# Altium footprint library SD2114S040S8R0.PcbLib: 1 footprints
Each footprint in its own frame and in the unit in brackets; x right, y up, seen from the top. Pads: shape width x height; smd on the part's side, far side on the other; paste and mask are expansions set on the pad; w line width, h text height; cw(c..) or ccw(c..) is an arc to the next point about the centre after c.
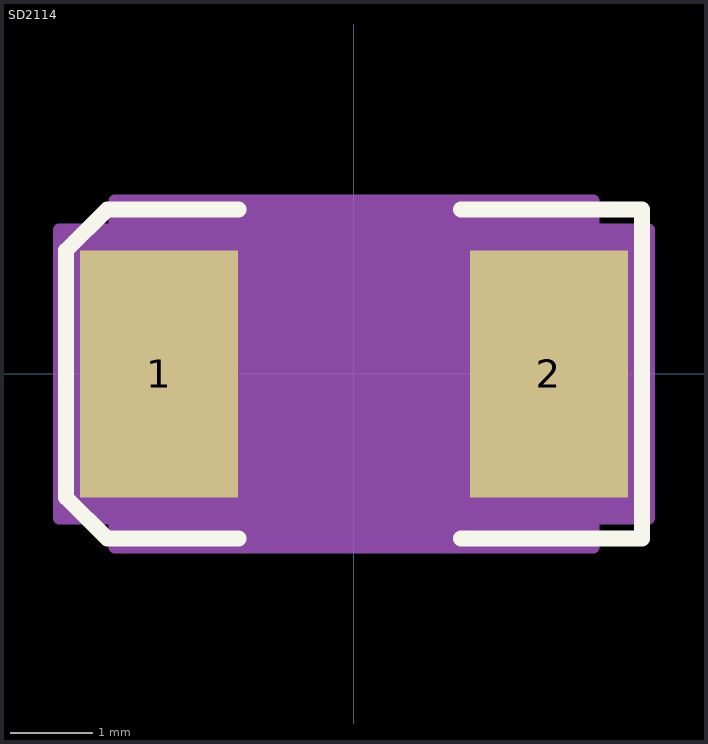
[diagram p0: the footprint, top view; thin cyan lines are the x and y axes]

## SD2114 [mil]
pads (2):
  rect 75.5x118 smd paste+0 mask+0: 1(-93.25,0) 2(93.25,0)
Top Overlay:
  lines w7.5: -55.12,-78.74 -114.17,-78.74 -118.11,-78.74 -137.8,-59.06 -137.8,59.06 -118.11,78.74 -55.12,78.74 ; 51.18,-78.74 137.8,-78.74 137.8,78.74 129.92,78.74 51.18,78.74
Mechanical 13:
  lines w1: -104.5,-73 -104.5,73 104.5,73 104.5,-73 -104.5,-73
Mechanical 15:
  region: -114.5,-69 -141,-69 -141,69 -114.5,69 -114.5,83 114.5,83 114.5,69 141,69 141,-69 114.5,-69 114.5,-83 -114.5,-83
  lines w6: -141,-69 -114.5,-69 -114.5,-83 114.5,-83 114.5,-69 141,-69 141,69 114.5,69 114.5,83 -114.5,83 -114.5,69 -141,69 -141,-69
3D body "SD2114.stp": height 47.01, standoff 0, extent -104.49,-73.11 104.49,73.11